# Altium integrated library NSC MiscPower.IntLib: 1417 symbols (part 18 of 39)
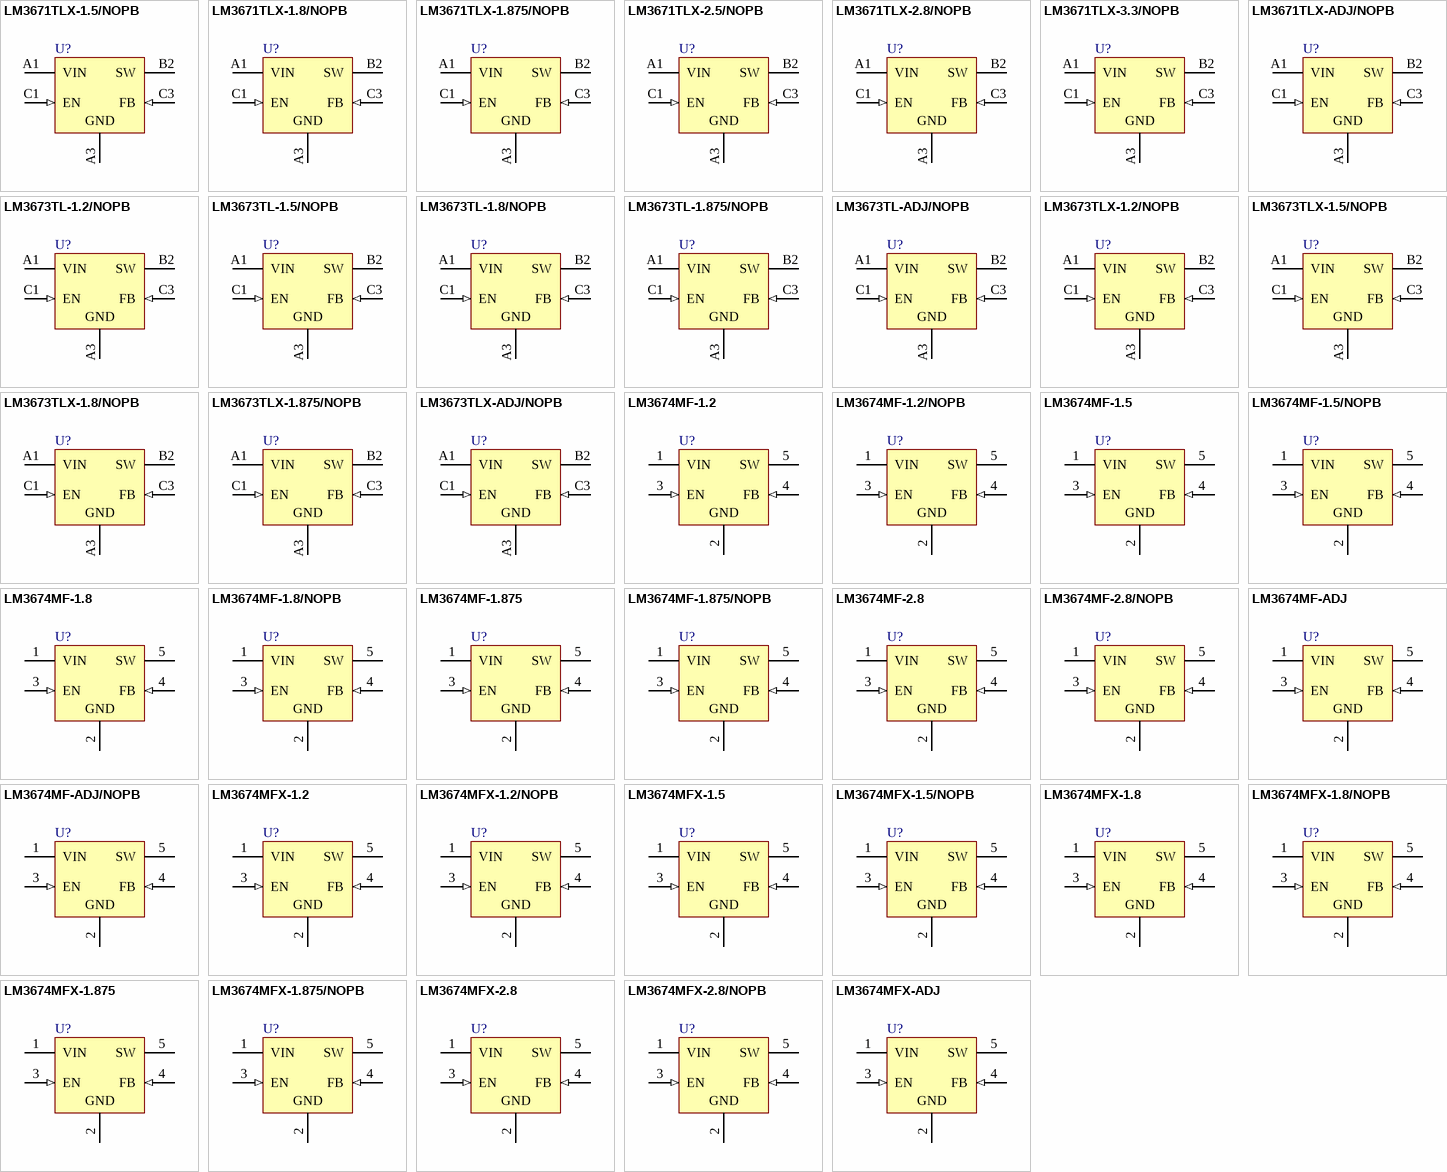
[diagram p68: symbols LM3671TLX-1.5/NOPB to LM3674MFX-ADJ]

## LM3674MF-1.5/NOPB
designator U?
2MHz, 600mA Step-Down DC-DC Converter, 5-pin SOT-23, Pb-Free; PartNumber: LM3674MF-1.5/NOPB; Manufacturer: National Semiconductor; PackageTopMarking: SLSB*XTT; PowerWise: Y; CompType: MiscPower; Published: 1-Mar-2010; DatasheetVersion: Sep-2006; PackageVersion: revD, Aug-2008; PackageReference: MF05A; Publisher: Altium Limited; PackageDescription: Molded SOT-23, .115 x .063 x .040 in Body, 5 Lead, .0375 in Pitch; Supplier 1: Digi-Key; Supplier Part Number 1: LM3674MF-1.5TR-ND; Supplier 2: Digi-Key; Supplier Part Number 2: LM3674MF-1.5CT-ND; RoHS: Y; PinCount: 5; ComponentLink1Description: LM3674 Datasheet; ComponentLink1URL: http://www.national.com/ds/LM/LM3674.pdf; ComponentLink2Description: LM3674 Web Page; ComponentLink2URL: http://www.national.com/pf/LM/LM3674.html; ComponentLink3Description: MF05A Package Page; ComponentLink3URL: http://www.national.com/packaging/folders/mf05a.html
footprint MF05A_N (SOT23, 5-Leads, Body 2.9x1.6mm, Pitch 0.95mm, Lead Span 2.8mm, IPC Medium Density)
footprint MF05A_L (SOT23, 5-Leads, Body 2.9x1.6mm, Pitch 0.95mm, Lead Span 2.8mm, IPC High Density)
footprint MF05A_M (SOT23, 5-Leads, Body 2.9x1.6mm, Pitch 0.95mm, Lead Span 2.8mm, IPC Low Density)
pins: 1 VIN (power), 2 GND (power), 3 EN (in), 4 FB (in), 5 SW (power)

## LM3674MF-1.8
designator U?
2MHz, 600mA Step-Down DC-DC Converter, 5-pin SOT-23; PartNumber: LM3674MF-1.8; Manufacturer: National Semiconductor; PackageTopMarking: SLHB*XTT; PowerWise: Y; CompType: MiscPower; Published: 4-Dec-2008; DatasheetVersion: Sep-2006; PackageVersion: revD, Aug-2008; PackageReference: MF05A; Publisher: Altium Limited; PackageDescription: Molded SOT-23, .115 x .063 x .040 in Body, 5 Lead, .0375 in Pitch; RoHS: N; PinCount: 5; ComponentLink1Description: LM3674 Datasheet; ComponentLink1URL: http://www.national.com/ds/LM/LM3674.pdf; ComponentLink2Description: LM3674 Web Page; ComponentLink2URL: http://www.national.com/pf/LM/LM3674.html; ComponentLink3Description: MF05A Package Page; ComponentLink3URL: http://www.national.com/packaging/folders/mf05a.html
footprint MF05A_N (SOT23, 5-Leads, Body 2.9x1.6mm, Pitch 0.95mm, Lead Span 2.8mm, IPC Medium Density)
footprint MF05A_L (SOT23, 5-Leads, Body 2.9x1.6mm, Pitch 0.95mm, Lead Span 2.8mm, IPC High Density)
footprint MF05A_M (SOT23, 5-Leads, Body 2.9x1.6mm, Pitch 0.95mm, Lead Span 2.8mm, IPC Low Density)
pins: 1 VIN (power), 2 GND (power), 3 EN (in), 4 FB (in), 5 SW (power)

## LM3674MF-1.8/NOPB
designator U?
2MHz, 600mA Step-Down DC-DC Converter, 5-pin SOT-23, Pb-Free; PartNumber: LM3674MF-1.8/NOPB; Manufacturer: National Semiconductor; PackageTopMarking: SLHB*XTT; PowerWise: Y; CompType: MiscPower; Published: 1-Mar-2010; DatasheetVersion: Sep-2006; PackageVersion: revD, Aug-2008; PackageReference: MF05A; Publisher: Altium Limited; PackageDescription: Molded SOT-23, .115 x .063 x .040 in Body, 5 Lead, .0375 in Pitch; Supplier 1: Digi-Key; Supplier Part Number 1: LM3674MF-1.8TR-ND; Supplier 2: Digi-Key; Supplier Part Number 2: LM3674MF-1.8CT-ND; Supplier 3: Digi-Key; Supplier Part Number 3: LM3674MF-1.8DKR-ND; Supplier 4: Farnell; Supplier Part Number 4: 1694627; RoHS: Y; PinCount: 5; ComponentLink1Description: LM3674 Datasheet; ComponentLink1URL: http://www.national.com/ds/LM/LM3674.pdf; ComponentLink2Description: LM3674 Web Page; ComponentLink2URL: http://www.national.com/pf/LM/LM3674.html; ComponentLink3Description: MF05A Package Page; ComponentLink3URL: http://www.national.com/packaging/folders/mf05a.html
footprint MF05A_N (SOT23, 5-Leads, Body 2.9x1.6mm, Pitch 0.95mm, Lead Span 2.8mm, IPC Medium Density)
footprint MF05A_L (SOT23, 5-Leads, Body 2.9x1.6mm, Pitch 0.95mm, Lead Span 2.8mm, IPC High Density)
footprint MF05A_M (SOT23, 5-Leads, Body 2.9x1.6mm, Pitch 0.95mm, Lead Span 2.8mm, IPC Low Density)
pins: 1 VIN (power), 2 GND (power), 3 EN (in), 4 FB (in), 5 SW (power)

## LM3674MF-1.875
designator U?
2MHz, 600mA Step-Down DC-DC Converter, 5-pin SOT-23; PartNumber: LM3674MF-1.875; Manufacturer: National Semiconductor; PackageTopMarking: SNNB*XTT; PowerWise: Y; CompType: MiscPower; Published: 4-Dec-2008; DatasheetVersion: Sep-2006; PackageVersion: revD, Aug-2008; PackageReference: MF05A; Publisher: Altium Limited; PackageDescription: Molded SOT-23, .115 x .063 x .040 in Body, 5 Lead, .0375 in Pitch; RoHS: N; PinCount: 5; ComponentLink1Description: LM3674 Datasheet; ComponentLink1URL: http://www.national.com/ds/LM/LM3674.pdf; ComponentLink2Description: LM3674 Web Page; ComponentLink2URL: http://www.national.com/pf/LM/LM3674.html; ComponentLink3Description: MF05A Package Page; ComponentLink3URL: http://www.national.com/packaging/folders/mf05a.html
footprint MF05A_N (SOT23, 5-Leads, Body 2.9x1.6mm, Pitch 0.95mm, Lead Span 2.8mm, IPC Medium Density)
footprint MF05A_L (SOT23, 5-Leads, Body 2.9x1.6mm, Pitch 0.95mm, Lead Span 2.8mm, IPC High Density)
footprint MF05A_M (SOT23, 5-Leads, Body 2.9x1.6mm, Pitch 0.95mm, Lead Span 2.8mm, IPC Low Density)
pins: 1 VIN (power), 2 GND (power), 3 EN (in), 4 FB (in), 5 SW (power)

## LM3674MF-1.875/NOPB
designator U?
2MHz, 600mA Step-Down DC-DC Converter, 5-pin SOT-23, Pb-Free; PartNumber: LM3674MF-1.875/NOPB; Manufacturer: National Semiconductor; PackageTopMarking: SNNB*XTT; PowerWise: Y; CompType: MiscPower; Published: 1-Mar-2010; DatasheetVersion: Sep-2006; PackageVersion: revD, Aug-2008; PackageReference: MF05A; Publisher: Altium Limited; PackageDescription: Molded SOT-23, .115 x .063 x .040 in Body, 5 Lead, .0375 in Pitch; Supplier 1: Digi-Key; Supplier Part Number 1: LM3674MF-1.875TR-ND; Supplier 2: Digi-Key; Supplier Part Number 2: LM3674MF-1.875CT-ND; RoHS: Y; PinCount: 5; ComponentLink1Description: LM3674 Datasheet; ComponentLink1URL: http://www.national.com/ds/LM/LM3674.pdf; ComponentLink2Description: LM3674 Web Page; ComponentLink2URL: http://www.national.com/pf/LM/LM3674.html; ComponentLink3Description: MF05A Package Page; ComponentLink3URL: http://www.national.com/packaging/folders/mf05a.html
footprint MF05A_N (SOT23, 5-Leads, Body 2.9x1.6mm, Pitch 0.95mm, Lead Span 2.8mm, IPC Medium Density)
footprint MF05A_L (SOT23, 5-Leads, Body 2.9x1.6mm, Pitch 0.95mm, Lead Span 2.8mm, IPC High Density)
footprint MF05A_M (SOT23, 5-Leads, Body 2.9x1.6mm, Pitch 0.95mm, Lead Span 2.8mm, IPC Low Density)
pins: 1 VIN (power), 2 GND (power), 3 EN (in), 4 FB (in), 5 SW (power)

## LM3674MF-2.8
designator U?
2MHz, 600mA Step-Down DC-DC Converter, 5-pin SOT-23; PartNumber: LM3674MF-2.8; Manufacturer: National Semiconductor; PackageTopMarking: SLZB*XTT; PowerWise: Y; CompType: MiscPower; Published: 4-Dec-2008; DatasheetVersion: Sep-2006; PackageVersion: revD, Aug-2008; PackageReference: MF05A; Publisher: Altium Limited; PackageDescription: Molded SOT-23, .115 x .063 x .040 in Body, 5 Lead, .0375 in Pitch; RoHS: N; PinCount: 5; ComponentLink1Description: LM3674 Datasheet; ComponentLink1URL: http://www.national.com/ds/LM/LM3674.pdf; ComponentLink2Description: LM3674 Web Page; ComponentLink2URL: http://www.national.com/pf/LM/LM3674.html; ComponentLink3Description: MF05A Package Page; ComponentLink3URL: http://www.national.com/packaging/folders/mf05a.html
footprint MF05A_N (SOT23, 5-Leads, Body 2.9x1.6mm, Pitch 0.95mm, Lead Span 2.8mm, IPC Medium Density)
footprint MF05A_L (SOT23, 5-Leads, Body 2.9x1.6mm, Pitch 0.95mm, Lead Span 2.8mm, IPC High Density)
footprint MF05A_M (SOT23, 5-Leads, Body 2.9x1.6mm, Pitch 0.95mm, Lead Span 2.8mm, IPC Low Density)
pins: 1 VIN (power), 2 GND (power), 3 EN (in), 4 FB (in), 5 SW (power)

## LM3674MF-2.8/NOPB
designator U?
2MHz, 600mA Step-Down DC-DC Converter, 5-pin SOT-23, Pb-Free; PartNumber: LM3674MF-2.8/NOPB; Manufacturer: National Semiconductor; PackageTopMarking: SLZB*XTT; PowerWise: Y; CompType: MiscPower; Published: 1-Mar-2010; DatasheetVersion: Sep-2006; PackageVersion: revD, Aug-2008; PackageReference: MF05A; Publisher: Altium Limited; PackageDescription: Molded SOT-23, .115 x .063 x .040 in Body, 5 Lead, .0375 in Pitch; Supplier 1: Digi-Key; Supplier Part Number 1: LM3674MF-2.8TR-ND; Supplier 2: Digi-Key; Supplier Part Number 2: LM3674MF-2.8CT-ND; RoHS: Y; PinCount: 5; ComponentLink1Description: LM3674 Datasheet; ComponentLink1URL: http://www.national.com/ds/LM/LM3674.pdf; ComponentLink2Description: LM3674 Web Page; ComponentLink2URL: http://www.national.com/pf/LM/LM3674.html; ComponentLink3Description: MF05A Package Page; ComponentLink3URL: http://www.national.com/packaging/folders/mf05a.html
footprint MF05A_N (SOT23, 5-Leads, Body 2.9x1.6mm, Pitch 0.95mm, Lead Span 2.8mm, IPC Medium Density)
footprint MF05A_L (SOT23, 5-Leads, Body 2.9x1.6mm, Pitch 0.95mm, Lead Span 2.8mm, IPC High Density)
footprint MF05A_M (SOT23, 5-Leads, Body 2.9x1.6mm, Pitch 0.95mm, Lead Span 2.8mm, IPC Low Density)
pins: 1 VIN (power), 2 GND (power), 3 EN (in), 4 FB (in), 5 SW (power)

## LM3674MF-ADJ
designator U?
2MHz, 600mA Step-Down DC-DC Converter, 5-pin SOT-23; PartNumber: LM3674MF-ADJ; Manufacturer: National Semiconductor; PackageTopMarking: SLTB*XTT; PowerWise: Y; CompType: MiscPower; Published: 4-Dec-2008; DatasheetVersion: Sep-2006; PackageVersion: revD, Aug-2008; PackageReference: MF05A; Publisher: Altium Limited; PackageDescription: Molded SOT-23, .115 x .063 x .040 in Body, 5 Lead, .0375 in Pitch; Supplier 1: Farnell; Supplier Part Number 1: 1312587; RoHS: N; PinCount: 5; ComponentLink1Description: LM3674 Datasheet; ComponentLink1URL: http://www.national.com/ds/LM/LM3674.pdf; ComponentLink2Description: LM3674 Web Page; ComponentLink2URL: http://www.national.com/pf/LM/LM3674.html; ComponentLink3Description: MF05A Package Page; ComponentLink3URL: http://www.national.com/packaging/folders/mf05a.html
footprint MF05A_N (SOT23, 5-Leads, Body 2.9x1.6mm, Pitch 0.95mm, Lead Span 2.8mm, IPC Medium Density)
footprint MF05A_L (SOT23, 5-Leads, Body 2.9x1.6mm, Pitch 0.95mm, Lead Span 2.8mm, IPC High Density)
footprint MF05A_M (SOT23, 5-Leads, Body 2.9x1.6mm, Pitch 0.95mm, Lead Span 2.8mm, IPC Low Density)
pins: 1 VIN (power), 2 GND (power), 3 EN (in), 4 FB (in), 5 SW (power)

## LM3674MF-ADJ/NOPB
designator U?
2MHz, 600mA Step-Down DC-DC Converter, 5-pin SOT-23, Pb-Free; PartNumber: LM3674MF-ADJ/NOPB; Manufacturer: National Semiconductor; PackageTopMarking: SLTB*XTT; PowerWise: Y; CompType: MiscPower; Published: 1-Mar-2010; DatasheetVersion: Sep-2006; PackageVersion: revD, Aug-2008; PackageReference: MF05A; Publisher: Altium Limited; PackageDescription: Molded SOT-23, .115 x .063 x .040 in Body, 5 Lead, .0375 in Pitch; Supplier 1: Digi-Key; Supplier Part Number 1: LM3674MF-ADJTR-ND; Supplier 2: Digi-Key; Supplier Part Number 2: LM3674MF-ADJCT-ND; Supplier 3: Digi-Key; Supplier Part Number 3: LM3674MF-ADJDKR-ND; Supplier 4: Farnell; Supplier Part Number 4: 1559830; RoHS: Y; PinCount: 5; ComponentLink1Description: LM3674 Datasheet; ComponentLink1URL: http://www.national.com/ds/LM/LM3674.pdf; ComponentLink2Description: LM3674 Web Page; ComponentLink2URL: http://www.national.com/pf/LM/LM3674.html; ComponentLink3Description: MF05A Package Page; ComponentLink3URL: http://www.national.com/packaging/folders/mf05a.html
footprint MF05A_N (SOT23, 5-Leads, Body 2.9x1.6mm, Pitch 0.95mm, Lead Span 2.8mm, IPC Medium Density)
footprint MF05A_L (SOT23, 5-Leads, Body 2.9x1.6mm, Pitch 0.95mm, Lead Span 2.8mm, IPC High Density)
footprint MF05A_M (SOT23, 5-Leads, Body 2.9x1.6mm, Pitch 0.95mm, Lead Span 2.8mm, IPC Low Density)
pins: 1 VIN (power), 2 GND (power), 3 EN (in), 4 FB (in), 5 SW (power)

## LM3674MFX-1.2
designator U?
2MHz, 600mA Step-Down DC-DC Converter, 5-pin SOT-23; PartNumber: LM3674MFX-1.2; Manufacturer: National Semiconductor; PackageTopMarking: SLRB*XTT; PowerWise: Y; CompType: MiscPower; Published: 1-Mar-2010; DatasheetVersion: Sep-2006; PackageVersion: revD, Aug-2008; PackageReference: MF05A; Publisher: Altium Limited; PackageDescription: Molded SOT-23, .115 x .063 x .040 in Body, 5 Lead, .0375 in Pitch; RoHS: N; PinCount: 5; ComponentLink1Description: LM3674 Datasheet; ComponentLink1URL: http://www.national.com/ds/LM/LM3674.pdf; ComponentLink2Description: LM3674 Web Page; ComponentLink2URL: http://www.national.com/pf/LM/LM3674.html; ComponentLink3Description: MF05A Package Page; ComponentLink3URL: http://www.national.com/packaging/folders/mf05a.html
footprint MF05A_N (SOT23, 5-Leads, Body 2.9x1.6mm, Pitch 0.95mm, Lead Span 2.8mm, IPC Medium Density)
footprint MF05A_L (SOT23, 5-Leads, Body 2.9x1.6mm, Pitch 0.95mm, Lead Span 2.8mm, IPC High Density)
footprint MF05A_M (SOT23, 5-Leads, Body 2.9x1.6mm, Pitch 0.95mm, Lead Span 2.8mm, IPC Low Density)
pins: 1 VIN (power), 2 GND (power), 3 EN (in), 4 FB (in), 5 SW (power)

## LM3674MFX-1.2/NOPB
designator U?
2MHz, 600mA Step-Down DC-DC Converter, 5-pin SOT-23, Pb-Free; PartNumber: LM3674MFX-1.2/NOPB; Manufacturer: National Semiconductor; PackageTopMarking: SLRB*XTT; PowerWise: Y; CompType: MiscPower; Published: 1-Mar-2010; DatasheetVersion: Sep-2006; PackageVersion: revD, Aug-2008; PackageReference: MF05A; Publisher: Altium Limited; PackageDescription: Molded SOT-23, .115 x .063 x .040 in Body, 5 Lead, .0375 in Pitch; Supplier 1: Digi-Key; Supplier Part Number 1: LM3674MFX-1.2-ND; RoHS: Y; PinCount: 5; ComponentLink1Description: LM3674 Datasheet; ComponentLink1URL: http://www.national.com/ds/LM/LM3674.pdf; ComponentLink2Description: LM3674 Web Page; ComponentLink2URL: http://www.national.com/pf/LM/LM3674.html; ComponentLink3Description: MF05A Package Page; ComponentLink3URL: http://www.national.com/packaging/folders/mf05a.html
footprint MF05A_N (SOT23, 5-Leads, Body 2.9x1.6mm, Pitch 0.95mm, Lead Span 2.8mm, IPC Medium Density)
footprint MF05A_L (SOT23, 5-Leads, Body 2.9x1.6mm, Pitch 0.95mm, Lead Span 2.8mm, IPC High Density)
footprint MF05A_M (SOT23, 5-Leads, Body 2.9x1.6mm, Pitch 0.95mm, Lead Span 2.8mm, IPC Low Density)
pins: 1 VIN (power), 2 GND (power), 3 EN (in), 4 FB (in), 5 SW (power)

## LM3674MFX-1.5
designator U?
2MHz, 600mA Step-Down DC-DC Converter, 5-pin SOT-23; PartNumber: LM3674MFX-1.5; Manufacturer: National Semiconductor; PackageTopMarking: SLSB*XTT; PowerWise: Y; CompType: MiscPower; Published: 1-Mar-2010; DatasheetVersion: Sep-2006; PackageVersion: revD, Aug-2008; PackageReference: MF05A; Publisher: Altium Limited; PackageDescription: Molded SOT-23, .115 x .063 x .040 in Body, 5 Lead, .0375 in Pitch; RoHS: N; PinCount: 5; ComponentLink1Description: LM3674 Datasheet; ComponentLink1URL: http://www.national.com/ds/LM/LM3674.pdf; ComponentLink2Description: LM3674 Web Page; ComponentLink2URL: http://www.national.com/pf/LM/LM3674.html; ComponentLink3Description: MF05A Package Page; ComponentLink3URL: http://www.national.com/packaging/folders/mf05a.html
footprint MF05A_N (SOT23, 5-Leads, Body 2.9x1.6mm, Pitch 0.95mm, Lead Span 2.8mm, IPC Medium Density)
footprint MF05A_L (SOT23, 5-Leads, Body 2.9x1.6mm, Pitch 0.95mm, Lead Span 2.8mm, IPC High Density)
footprint MF05A_M (SOT23, 5-Leads, Body 2.9x1.6mm, Pitch 0.95mm, Lead Span 2.8mm, IPC Low Density)
pins: 1 VIN (power), 2 GND (power), 3 EN (in), 4 FB (in), 5 SW (power)

## LM3674MFX-1.5/NOPB
designator U?
2MHz, 600mA Step-Down DC-DC Converter, 5-pin SOT-23, Pb-Free; PartNumber: LM3674MFX-1.5/NOPB; Manufacturer: National Semiconductor; PackageTopMarking: SLSB*XTT; PowerWise: Y; CompType: MiscPower; Published: 1-Mar-2010; DatasheetVersion: Sep-2006; PackageVersion: revD, Aug-2008; PackageReference: MF05A; Publisher: Altium Limited; PackageDescription: Molded SOT-23, .115 x .063 x .040 in Body, 5 Lead, .0375 in Pitch; Supplier 1: Digi-Key; Supplier Part Number 1: LM3674MFX-1.5-ND; RoHS: Y; PinCount: 5; ComponentLink1Description: LM3674 Datasheet; ComponentLink1URL: http://www.national.com/ds/LM/LM3674.pdf; ComponentLink2Description: LM3674 Web Page; ComponentLink2URL: http://www.national.com/pf/LM/LM3674.html; ComponentLink3Description: MF05A Package Page; ComponentLink3URL: http://www.national.com/packaging/folders/mf05a.html
footprint MF05A_N (SOT23, 5-Leads, Body 2.9x1.6mm, Pitch 0.95mm, Lead Span 2.8mm, IPC Medium Density)
footprint MF05A_L (SOT23, 5-Leads, Body 2.9x1.6mm, Pitch 0.95mm, Lead Span 2.8mm, IPC High Density)
footprint MF05A_M (SOT23, 5-Leads, Body 2.9x1.6mm, Pitch 0.95mm, Lead Span 2.8mm, IPC Low Density)
pins: 1 VIN (power), 2 GND (power), 3 EN (in), 4 FB (in), 5 SW (power)

## LM3674MFX-1.8
designator U?
2MHz, 600mA Step-Down DC-DC Converter, 5-pin SOT-23; PartNumber: LM3674MFX-1.8; Manufacturer: National Semiconductor; PackageTopMarking: SLHB*XTT; PowerWise: Y; CompType: MiscPower; Published: 1-Mar-2010; DatasheetVersion: Sep-2006; PackageVersion: revD, Aug-2008; PackageReference: MF05A; Publisher: Altium Limited; PackageDescription: Molded SOT-23, .115 x .063 x .040 in Body, 5 Lead, .0375 in Pitch; RoHS: N; PinCount: 5; ComponentLink1Description: LM3674 Datasheet; ComponentLink1URL: http://www.national.com/ds/LM/LM3674.pdf; ComponentLink2Description: LM3674 Web Page; ComponentLink2URL: http://www.national.com/pf/LM/LM3674.html; ComponentLink3Description: MF05A Package Page; ComponentLink3URL: http://www.national.com/packaging/folders/mf05a.html
footprint MF05A_N (SOT23, 5-Leads, Body 2.9x1.6mm, Pitch 0.95mm, Lead Span 2.8mm, IPC Medium Density)
footprint MF05A_L (SOT23, 5-Leads, Body 2.9x1.6mm, Pitch 0.95mm, Lead Span 2.8mm, IPC High Density)
footprint MF05A_M (SOT23, 5-Leads, Body 2.9x1.6mm, Pitch 0.95mm, Lead Span 2.8mm, IPC Low Density)
pins: 1 VIN (power), 2 GND (power), 3 EN (in), 4 FB (in), 5 SW (power)

## LM3674MFX-1.8/NOPB
designator U?
2MHz, 600mA Step-Down DC-DC Converter, 5-pin SOT-23, Pb-Free; PartNumber: LM3674MFX-1.8/NOPB; Manufacturer: National Semiconductor; PackageTopMarking: SLHB*XTT; PowerWise: Y; CompType: MiscPower; Published: 1-Mar-2010; DatasheetVersion: Sep-2006; PackageVersion: revD, Aug-2008; PackageReference: MF05A; Publisher: Altium Limited; PackageDescription: Molded SOT-23, .115 x .063 x .040 in Body, 5 Lead, .0375 in Pitch; Supplier 1: Digi-Key; Supplier Part Number 1: LM3674MFX-1.8-ND; RoHS: Y; PinCount: 5; ComponentLink1Description: LM3674 Datasheet; ComponentLink1URL: http://www.national.com/ds/LM/LM3674.pdf; ComponentLink2Description: LM3674 Web Page; ComponentLink2URL: http://www.national.com/pf/LM/LM3674.html; ComponentLink3Description: MF05A Package Page; ComponentLink3URL: http://www.national.com/packaging/folders/mf05a.html
footprint MF05A_N (SOT23, 5-Leads, Body 2.9x1.6mm, Pitch 0.95mm, Lead Span 2.8mm, IPC Medium Density)
footprint MF05A_L (SOT23, 5-Leads, Body 2.9x1.6mm, Pitch 0.95mm, Lead Span 2.8mm, IPC High Density)
footprint MF05A_M (SOT23, 5-Leads, Body 2.9x1.6mm, Pitch 0.95mm, Lead Span 2.8mm, IPC Low Density)
pins: 1 VIN (power), 2 GND (power), 3 EN (in), 4 FB (in), 5 SW (power)

## LM3674MFX-1.875
designator U?
2MHz, 600mA Step-Down DC-DC Converter, 5-pin SOT-23; PartNumber: LM3674MFX-1.875; Manufacturer: National Semiconductor; PackageTopMarking: SNNB*XTT; PowerWise: Y; CompType: MiscPower; Published: 1-Mar-2010; DatasheetVersion: Sep-2006; PackageVersion: revD, Aug-2008; PackageReference: MF05A; Publisher: Altium Limited; PackageDescription: Molded SOT-23, .115 x .063 x .040 in Body, 5 Lead, .0375 in Pitch; RoHS: N; PinCount: 5; ComponentLink1Description: LM3674 Datasheet; ComponentLink1URL: http://www.national.com/ds/LM/LM3674.pdf; ComponentLink2Description: LM3674 Web Page; ComponentLink2URL: http://www.national.com/pf/LM/LM3674.html; ComponentLink3Description: MF05A Package Page; ComponentLink3URL: http://www.national.com/packaging/folders/mf05a.html
footprint MF05A_N (SOT23, 5-Leads, Body 2.9x1.6mm, Pitch 0.95mm, Lead Span 2.8mm, IPC Medium Density)
footprint MF05A_L (SOT23, 5-Leads, Body 2.9x1.6mm, Pitch 0.95mm, Lead Span 2.8mm, IPC High Density)
footprint MF05A_M (SOT23, 5-Leads, Body 2.9x1.6mm, Pitch 0.95mm, Lead Span 2.8mm, IPC Low Density)
pins: 1 VIN (power), 2 GND (power), 3 EN (in), 4 FB (in), 5 SW (power)

## LM3674MFX-1.875/NOPB
designator U?
2MHz, 600mA Step-Down DC-DC Converter, 5-pin SOT-23, Pb-Free; PartNumber: LM3674MFX-1.875/NOPB; Manufacturer: National Semiconductor; PackageTopMarking: SNNB*XTT; PowerWise: Y; CompType: MiscPower; Published: 1-Mar-2010; DatasheetVersion: Sep-2006; PackageVersion: revD, Aug-2008; PackageReference: MF05A; Publisher: Altium Limited; PackageDescription: Molded SOT-23, .115 x .063 x .040 in Body, 5 Lead, .0375 in Pitch; Supplier 1: Digi-Key; Supplier Part Number 1: LM3674MFX-1.875-ND; RoHS: Y; PinCount: 5; ComponentLink1Description: LM3674 Datasheet; ComponentLink1URL: http://www.national.com/ds/LM/LM3674.pdf; ComponentLink2Description: LM3674 Web Page; ComponentLink2URL: http://www.national.com/pf/LM/LM3674.html; ComponentLink3Description: MF05A Package Page; ComponentLink3URL: http://www.national.com/packaging/folders/mf05a.html
footprint MF05A_N (SOT23, 5-Leads, Body 2.9x1.6mm, Pitch 0.95mm, Lead Span 2.8mm, IPC Medium Density)
footprint MF05A_L (SOT23, 5-Leads, Body 2.9x1.6mm, Pitch 0.95mm, Lead Span 2.8mm, IPC High Density)
footprint MF05A_M (SOT23, 5-Leads, Body 2.9x1.6mm, Pitch 0.95mm, Lead Span 2.8mm, IPC Low Density)
pins: 1 VIN (power), 2 GND (power), 3 EN (in), 4 FB (in), 5 SW (power)

## LM3674MFX-2.8
designator U?
2MHz, 600mA Step-Down DC-DC Converter, 5-pin SOT-23; PartNumber: LM3674MFX-2.8; Manufacturer: National Semiconductor; PackageTopMarking: SLZB*XTT; PowerWise: Y; CompType: MiscPower; Published: 1-Mar-2010; DatasheetVersion: Sep-2006; PackageVersion: revD, Aug-2008; PackageReference: MF05A; Publisher: Altium Limited; PackageDescription: Molded SOT-23, .115 x .063 x .040 in Body, 5 Lead, .0375 in Pitch; RoHS: N; PinCount: 5; ComponentLink1Description: LM3674 Datasheet; ComponentLink1URL: http://www.national.com/ds/LM/LM3674.pdf; ComponentLink2Description: LM3674 Web Page; ComponentLink2URL: http://www.national.com/pf/LM/LM3674.html; ComponentLink3Description: MF05A Package Page; ComponentLink3URL: http://www.national.com/packaging/folders/mf05a.html
footprint MF05A_N (SOT23, 5-Leads, Body 2.9x1.6mm, Pitch 0.95mm, Lead Span 2.8mm, IPC Medium Density)
footprint MF05A_L (SOT23, 5-Leads, Body 2.9x1.6mm, Pitch 0.95mm, Lead Span 2.8mm, IPC High Density)
footprint MF05A_M (SOT23, 5-Leads, Body 2.9x1.6mm, Pitch 0.95mm, Lead Span 2.8mm, IPC Low Density)
pins: 1 VIN (power), 2 GND (power), 3 EN (in), 4 FB (in), 5 SW (power)

## LM3674MFX-2.8/NOPB
designator U?
2MHz, 600mA Step-Down DC-DC Converter, 5-pin SOT-23, Pb-Free; PartNumber: LM3674MFX-2.8/NOPB; Manufacturer: National Semiconductor; PackageTopMarking: SLZB*XTT; PowerWise: Y; CompType: MiscPower; Published: 1-Mar-2010; DatasheetVersion: Sep-2006; PackageVersion: revD, Aug-2008; PackageReference: MF05A; Publisher: Altium Limited; PackageDescription: Molded SOT-23, .115 x .063 x .040 in Body, 5 Lead, .0375 in Pitch; Supplier 1: Digi-Key; Supplier Part Number 1: LM3674MFX-2.8-ND; RoHS: Y; PinCount: 5; ComponentLink1Description: LM3674 Datasheet; ComponentLink1URL: http://www.national.com/ds/LM/LM3674.pdf; ComponentLink2Description: LM3674 Web Page; ComponentLink2URL: http://www.national.com/pf/LM/LM3674.html; ComponentLink3Description: MF05A Package Page; ComponentLink3URL: http://www.national.com/packaging/folders/mf05a.html
footprint MF05A_N (SOT23, 5-Leads, Body 2.9x1.6mm, Pitch 0.95mm, Lead Span 2.8mm, IPC Medium Density)
footprint MF05A_L (SOT23, 5-Leads, Body 2.9x1.6mm, Pitch 0.95mm, Lead Span 2.8mm, IPC High Density)
footprint MF05A_M (SOT23, 5-Leads, Body 2.9x1.6mm, Pitch 0.95mm, Lead Span 2.8mm, IPC Low Density)
pins: 1 VIN (power), 2 GND (power), 3 EN (in), 4 FB (in), 5 SW (power)

## LM3674MFX-ADJ
designator U?
2MHz, 600mA Step-Down DC-DC Converter, 5-pin SOT-23; PartNumber: LM3674MFX-ADJ; Manufacturer: National Semiconductor; PackageTopMarking: SLTB*XTT; PowerWise: Y; CompType: MiscPower; Published: 1-Mar-2010; DatasheetVersion: Sep-2006; PackageVersion: revD, Aug-2008; PackageReference: MF05A; Publisher: Altium Limited; PackageDescription: Molded SOT-23, .115 x .063 x .040 in Body, 5 Lead, .0375 in Pitch; RoHS: N; PinCount: 5; ComponentLink1Description: LM3674 Datasheet; ComponentLink1URL: http://www.national.com/ds/LM/LM3674.pdf; ComponentLink2Description: LM3674 Web Page; ComponentLink2URL: http://www.national.com/pf/LM/LM3674.html; ComponentLink3Description: MF05A Package Page; ComponentLink3URL: http://www.national.com/packaging/folders/mf05a.html
footprint MF05A_N (SOT23, 5-Leads, Body 2.9x1.6mm, Pitch 0.95mm, Lead Span 2.8mm, IPC Medium Density)
footprint MF05A_L (SOT23, 5-Leads, Body 2.9x1.6mm, Pitch 0.95mm, Lead Span 2.8mm, IPC High Density)
footprint MF05A_M (SOT23, 5-Leads, Body 2.9x1.6mm, Pitch 0.95mm, Lead Span 2.8mm, IPC Low Density)
pins: 1 VIN (power), 2 GND (power), 3 EN (in), 4 FB (in), 5 SW (power)

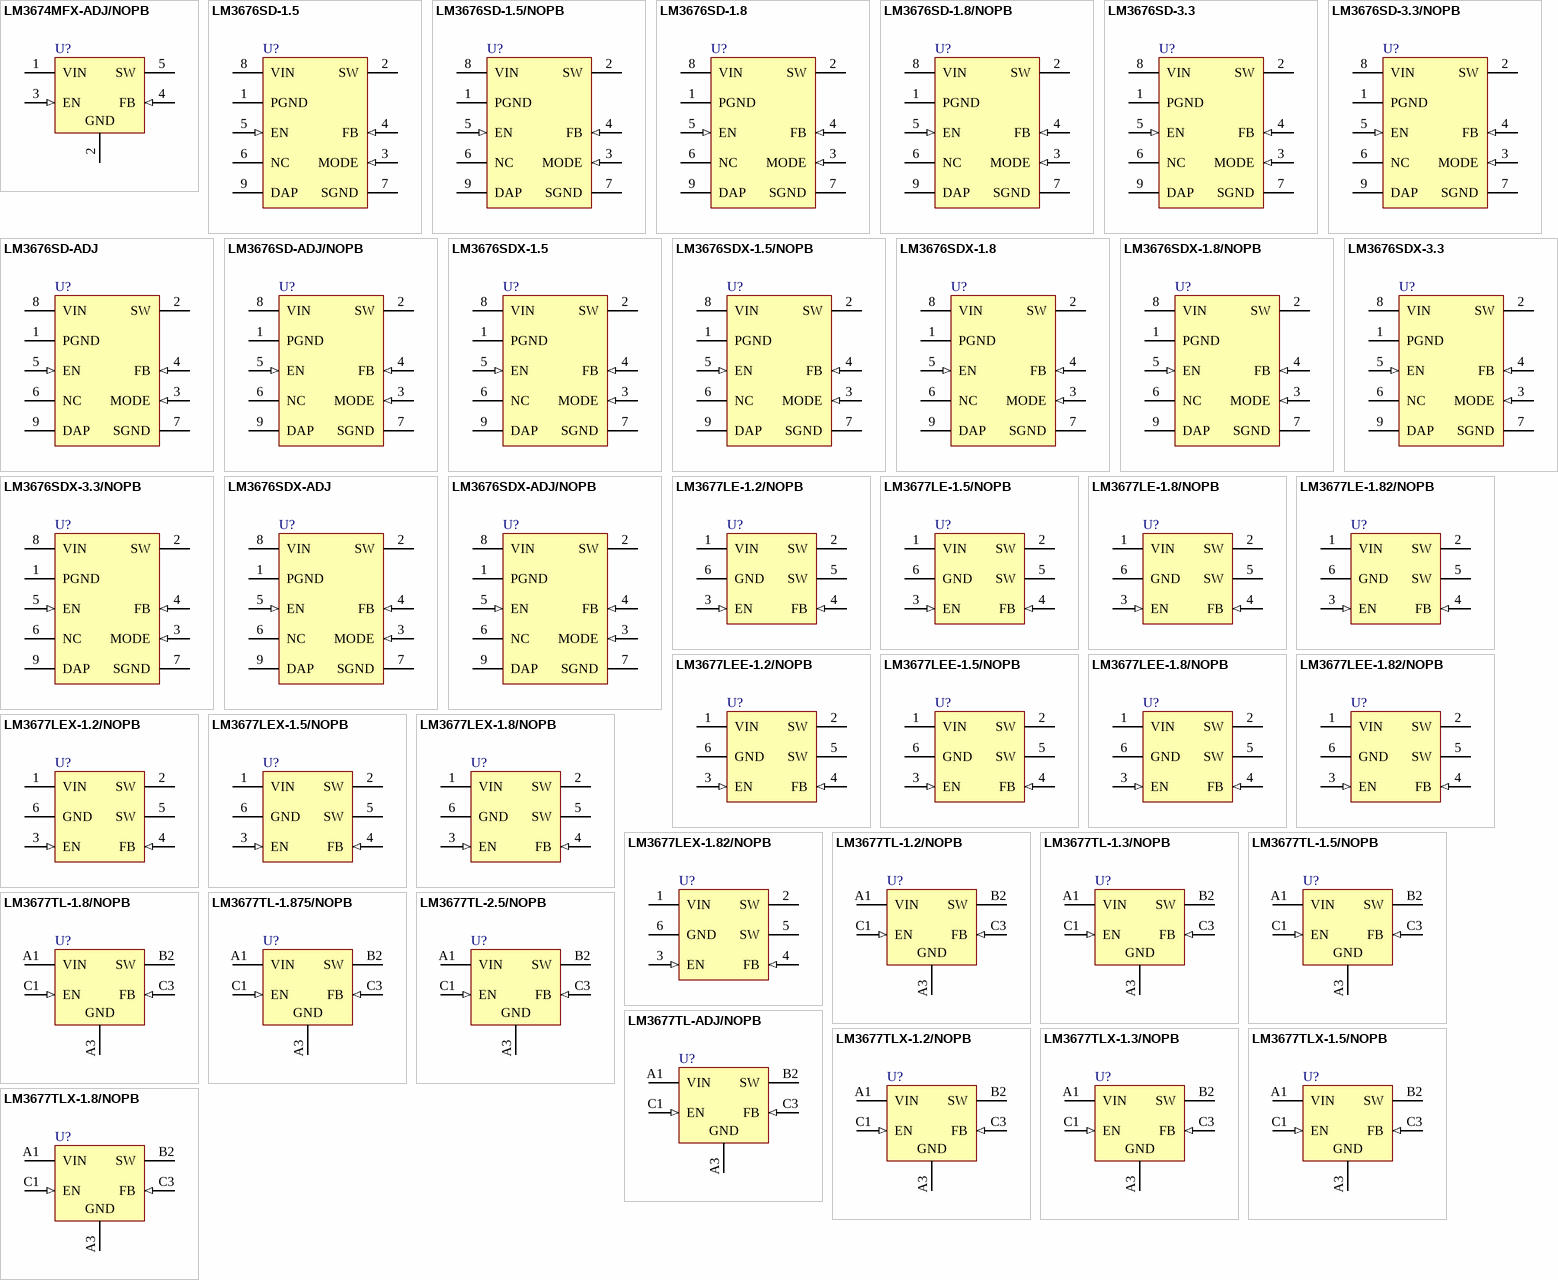
[diagram p20: symbols LM3674MFX-ADJ/NOPB to LM3677TLX-1.8/NOPB]

## LM3674MFX-ADJ/NOPB
designator U?
2MHz, 600mA Step-Down DC-DC Converter, 5-pin SOT-23, Pb-Free; PartNumber: LM3674MFX-ADJ/NOPB; Manufacturer: National Semiconductor; PackageTopMarking: SLTB*XTT; PowerWise: Y; CompType: MiscPower; Published: 1-Mar-2010; DatasheetVersion: Sep-2006; PackageVersion: revD, Aug-2008; PackageReference: MF05A; Publisher: Altium Limited; PackageDescription: Molded SOT-23, .115 x .063 x .040 in Body, 5 Lead, .0375 in Pitch; Supplier 1: Digi-Key; Supplier Part Number 1: LM3674MFX-ADJ-ND; RoHS: Y; PinCount: 5; ComponentLink1Description: LM3674 Datasheet; ComponentLink1URL: http://www.national.com/ds/LM/LM3674.pdf; ComponentLink2Description: LM3674 Web Page; ComponentLink2URL: http://www.national.com/pf/LM/LM3674.html; ComponentLink3Description: MF05A Package Page; ComponentLink3URL: http://www.national.com/packaging/folders/mf05a.html
footprint MF05A_N (SOT23, 5-Leads, Body 2.9x1.6mm, Pitch 0.95mm, Lead Span 2.8mm, IPC Medium Density)
footprint MF05A_L (SOT23, 5-Leads, Body 2.9x1.6mm, Pitch 0.95mm, Lead Span 2.8mm, IPC High Density)
footprint MF05A_M (SOT23, 5-Leads, Body 2.9x1.6mm, Pitch 0.95mm, Lead Span 2.8mm, IPC Low Density)
pins: 1 VIN (power), 2 GND (power), 3 EN (in), 4 FB (in), 5 SW (power)

## LM3676SD-1.5
designator U?
2MHz, 600mA Step-Down DC-DC Converter with Mode Control, 8-pin LLP; PartNumber: LM3676SD-1.5; Manufacturer: National Semiconductor; PackageTopMarking: ZXYTT*S007B; PowerWise: N; CompType: MiscPower; Published: 4-Dec-2008; DatasheetVersion: Dec-2006; PackageVersion: revA, Aug-2003; PackageReference: SDA08A; Publisher: Altium Limited; PackageDescription: LLP, Plastic, Dual, 3 x 3 x 0.8mm Body, 8 Lead, 0.5mm Pitch, No Pullback; RoHS: N; PinCount: 8; ComponentLink1Description: LM3676 Datasheet; ComponentLink1URL: http://www.national.com/ds/LM/LM3676.pdf; ComponentLink2Description: LM3676 Web Page; ComponentLink2URL: http://www.national.com/pf/LM/LM3676.html; ComponentLink3Description: SDA08A Package Page; ComponentLink3URL: http://www.national.com/packaging/folders/sda08a.html
footprint SDA08A (SON, 8-Leads, Body 3x3mm, Pitch 0.5mm, NSC Recommended)
pins: 1 PGND (power), 2 SW (power), 3 MODE (in), 4 FB (in), 5 EN (in), 6 NC, 7 SGND (power), 8 VIN (power), 9 DAP (power)

## LM3676SD-1.5/NOPB
designator U?
2MHz, 600mA Step-Down DC-DC Converter with Mode Control, 8-pin LLP, Pb-Free; PartNumber: LM3676SD-1.5/NOPB; Manufacturer: National Semiconductor; PackageTopMarking: ZXYTT*S007B; PowerWise: N; CompType: MiscPower; Published: 1-Mar-2010; DatasheetVersion: Dec-2006; PackageVersion: revA, Aug-2003; PackageReference: SDA08A; Publisher: Altium Limited; PackageDescription: LLP, Plastic, Dual, 3 x 3 x 0.8mm Body, 8 Lead, 0.5mm Pitch, No Pullback; Supplier 1: Digi-Key; Supplier Part Number 1: LM3676SD-1.5TR-ND; Supplier 2: Digi-Key; Supplier Part Number 2: LM3676SD-1.5CT-ND; Supplier 3: Digi-Key; Supplier Part Number 3: LM3676SD-1.5DKR-ND; RoHS: Y; PinCount: 8; ComponentLink1Description: LM3676 Datasheet; ComponentLink1URL: http://www.national.com/ds/LM/LM3676.pdf; ComponentLink2Description: LM3676 Web Page; ComponentLink2URL: http://www.national.com/pf/LM/LM3676.html; ComponentLink3Description: SDA08A Package Page; ComponentLink3URL: http://www.national.com/packaging/folders/sda08a.html
footprint SDA08A (SON, 8-Leads, Body 3x3mm, Pitch 0.5mm, NSC Recommended)
pins: 1 PGND (power), 2 SW (power), 3 MODE (in), 4 FB (in), 5 EN (in), 6 NC, 7 SGND (power), 8 VIN (power), 9 DAP (power)

## LM3676SD-1.8
designator U?
2MHz, 600mA Step-Down DC-DC Converter with Mode Control, 8-pin LLP; PartNumber: LM3676SD-1.8; Manufacturer: National Semiconductor; PackageTopMarking: ZXYTT*S009B; PowerWise: N; CompType: MiscPower; Published: 4-Dec-2008; DatasheetVersion: Dec-2006; PackageVersion: revA, Aug-2003; PackageReference: SDA08A; Publisher: Altium Limited; PackageDescription: LLP, Plastic, Dual, 3 x 3 x 0.8mm Body, 8 Lead, 0.5mm Pitch, No Pullback; RoHS: N; PinCount: 8; ComponentLink1Description: LM3676 Datasheet; ComponentLink1URL: http://www.national.com/ds/LM/LM3676.pdf; ComponentLink2Description: LM3676 Web Page; ComponentLink2URL: http://www.national.com/pf/LM/LM3676.html; ComponentLink3Description: SDA08A Package Page; ComponentLink3URL: http://www.national.com/packaging/folders/sda08a.html
footprint SDA08A (SON, 8-Leads, Body 3x3mm, Pitch 0.5mm, NSC Recommended)
pins: 1 PGND (power), 2 SW (power), 3 MODE (in), 4 FB (in), 5 EN (in), 6 NC, 7 SGND (power), 8 VIN (power), 9 DAP (power)

## LM3676SD-1.8/NOPB
designator U?
2MHz, 600mA Step-Down DC-DC Converter with Mode Control, 8-pin LLP, Pb-Free; PartNumber: LM3676SD-1.8/NOPB; Manufacturer: National Semiconductor; PackageTopMarking: ZXYTT*S009B; PowerWise: N; CompType: MiscPower; Published: 1-Mar-2010; DatasheetVersion: Dec-2006; PackageVersion: revA, Aug-2003; PackageReference: SDA08A; Publisher: Altium Limited; PackageDescription: LLP, Plastic, Dual, 3 x 3 x 0.8mm Body, 8 Lead, 0.5mm Pitch, No Pullback; Supplier 1: Digi-Key; Supplier Part Number 1: LM3676SD-1.8TR-ND; Supplier 2: Digi-Key; Supplier Part Number 2: LM3676SD-1.8CT-ND; Supplier 3: Digi-Key; Supplier Part Number 3: LM3676SD-1.8DKR-ND; RoHS: Y; PinCount: 8; ComponentLink1Description: LM3676 Datasheet; ComponentLink1URL: http://www.national.com/ds/LM/LM3676.pdf; ComponentLink2Description: LM3676 Web Page; ComponentLink2URL: http://www.national.com/pf/LM/LM3676.html; ComponentLink3Description: SDA08A Package Page; ComponentLink3URL: http://www.national.com/packaging/folders/sda08a.html
footprint SDA08A (SON, 8-Leads, Body 3x3mm, Pitch 0.5mm, NSC Recommended)
pins: 1 PGND (power), 2 SW (power), 3 MODE (in), 4 FB (in), 5 EN (in), 6 NC, 7 SGND (power), 8 VIN (power), 9 DAP (power)

## LM3676SD-3.3
designator U?
2MHz, 600mA Step-Down DC-DC Converter with Mode Control, 8-pin LLP; PartNumber: LM3676SD-3.3; Manufacturer: National Semiconductor; PackageTopMarking: ZXYTT*S010B; PowerWise: N; CompType: MiscPower; Published: 4-Dec-2008; DatasheetVersion: Dec-2006; PackageVersion: revA, Aug-2003; PackageReference: SDA08A; Publisher: Altium Limited; PackageDescription: LLP, Plastic, Dual, 3 x 3 x 0.8mm Body, 8 Lead, 0.5mm Pitch, No Pullback; RoHS: N; PinCount: 8; ComponentLink1Description: LM3676 Datasheet; ComponentLink1URL: http://www.national.com/ds/LM/LM3676.pdf; ComponentLink2Description: LM3676 Web Page; ComponentLink2URL: http://www.national.com/pf/LM/LM3676.html; ComponentLink3Description: SDA08A Package Page; ComponentLink3URL: http://www.national.com/packaging/folders/sda08a.html
footprint SDA08A (SON, 8-Leads, Body 3x3mm, Pitch 0.5mm, NSC Recommended)
pins: 1 PGND (power), 2 SW (power), 3 MODE (in), 4 FB (in), 5 EN (in), 6 NC, 7 SGND (power), 8 VIN (power), 9 DAP (power)

## LM3676SD-3.3/NOPB
designator U?
2MHz, 600mA Step-Down DC-DC Converter with Mode Control, 8-pin LLP, Pb-Free; PartNumber: LM3676SD-3.3/NOPB; Manufacturer: National Semiconductor; PackageTopMarking: ZXYTT*S010B; PowerWise: N; CompType: MiscPower; Published: 1-Mar-2010; DatasheetVersion: Dec-2006; PackageVersion: revA, Aug-2003; PackageReference: SDA08A; Publisher: Altium Limited; PackageDescription: LLP, Plastic, Dual, 3 x 3 x 0.8mm Body, 8 Lead, 0.5mm Pitch, No Pullback; Supplier 1: Digi-Key; Supplier Part Number 1: LM3676SD-3.3TR-ND; Supplier 2: Digi-Key; Supplier Part Number 2: LM3676SD-3.3CT-ND; Supplier 3: Digi-Key; Supplier Part Number 3: LM3676SD-3.3DKR-ND; RoHS: Y; PinCount: 8; ComponentLink1Description: LM3676 Datasheet; ComponentLink1URL: http://www.national.com/ds/LM/LM3676.pdf; ComponentLink2Description: LM3676 Web Page; ComponentLink2URL: http://www.national.com/pf/LM/LM3676.html; ComponentLink3Description: SDA08A Package Page; ComponentLink3URL: http://www.national.com/packaging/folders/sda08a.html
footprint SDA08A (SON, 8-Leads, Body 3x3mm, Pitch 0.5mm, NSC Recommended)
pins: 1 PGND (power), 2 SW (power), 3 MODE (in), 4 FB (in), 5 EN (in), 6 NC, 7 SGND (power), 8 VIN (power), 9 DAP (power)

## LM3676SD-ADJ
designator U?
2MHz, 600mA Step-Down DC-DC Converter with Mode Control, 8-pin LLP; PartNumber: LM3676SD-ADJ; Manufacturer: National Semiconductor; PackageTopMarking: ZXYTT*S008B; PowerWise: N; CompType: MiscPower; Published: 4-Dec-2008; DatasheetVersion: Dec-2006; PackageVersion: revA, Aug-2003; PackageReference: SDA08A; Publisher: Altium Limited; PackageDescription: LLP, Plastic, Dual, 3 x 3 x 0.8mm Body, 8 Lead, 0.5mm Pitch, No Pullback; RoHS: N; PinCount: 8; ComponentLink1Description: LM3676 Datasheet; ComponentLink1URL: http://www.national.com/ds/LM/LM3676.pdf; ComponentLink2Description: LM3676 Web Page; ComponentLink2URL: http://www.national.com/pf/LM/LM3676.html; ComponentLink3Description: SDA08A Package Page; ComponentLink3URL: http://www.national.com/packaging/folders/sda08a.html
footprint SDA08A (SON, 8-Leads, Body 3x3mm, Pitch 0.5mm, NSC Recommended)
pins: 1 PGND (power), 2 SW (power), 3 MODE (in), 4 FB (in), 5 EN (in), 6 NC, 7 SGND (power), 8 VIN (power), 9 DAP (power)

## LM3676SD-ADJ/NOPB
designator U?
2MHz, 600mA Step-Down DC-DC Converter with Mode Control, 8-pin LLP, Pb-Free; PartNumber: LM3676SD-ADJ/NOPB; Manufacturer: National Semiconductor; PackageTopMarking: ZXYTT*S008B; PowerWise: N; CompType: MiscPower; Published: 1-Mar-2010; DatasheetVersion: Dec-2006; PackageVersion: revA, Aug-2003; PackageReference: SDA08A; Publisher: Altium Limited; PackageDescription: LLP, Plastic, Dual, 3 x 3 x 0.8mm Body, 8 Lead, 0.5mm Pitch, No Pullback; Supplier 1: Digi-Key; Supplier Part Number 1: LM3676SD-ADJTR-ND; Supplier 2: Digi-Key; Supplier Part Number 2: LM3676SD-ADJCT-ND; Supplier 3: Digi-Key; Supplier Part Number 3: LM3676SD-ADJDKR-ND; RoHS: Y; PinCount: 8; ComponentLink1Description: LM3676 Datasheet; ComponentLink1URL: http://www.national.com/ds/LM/LM3676.pdf; ComponentLink2Description: LM3676 Web Page; ComponentLink2URL: http://www.national.com/pf/LM/LM3676.html; ComponentLink3Description: SDA08A Package Page; ComponentLink3URL: http://www.national.com/packaging/folders/sda08a.html
footprint SDA08A (SON, 8-Leads, Body 3x3mm, Pitch 0.5mm, NSC Recommended)
pins: 1 PGND (power), 2 SW (power), 3 MODE (in), 4 FB (in), 5 EN (in), 6 NC, 7 SGND (power), 8 VIN (power), 9 DAP (power)

## LM3676SDX-1.5
designator U?
2MHz, 600mA Step-Down DC-DC Converter with Mode Control, 8-pin LLP; PartNumber: LM3676SDX-1.5; Manufacturer: National Semiconductor; PackageTopMarking: ZXYTT*S007B; PowerWise: N; CompType: MiscPower; Published: 1-Mar-2010; DatasheetVersion: Dec-2006; PackageVersion: revA, Aug-2003; PackageReference: SDA08A; Publisher: Altium Limited; PackageDescription: LLP, Plastic, Dual, 3 x 3 x 0.8mm Body, 8 Lead, 0.5mm Pitch, No Pullback; RoHS: N; PinCount: 8; ComponentLink1Description: LM3676 Datasheet; ComponentLink1URL: http://www.national.com/ds/LM/LM3676.pdf; ComponentLink2Description: LM3676 Web Page; ComponentLink2URL: http://www.national.com/pf/LM/LM3676.html; ComponentLink3Description: SDA08A Package Page; ComponentLink3URL: http://www.national.com/packaging/folders/sda08a.html
footprint SDA08A (SON, 8-Leads, Body 3x3mm, Pitch 0.5mm, NSC Recommended)
pins: 1 PGND (power), 2 SW (power), 3 MODE (in), 4 FB (in), 5 EN (in), 6 NC, 7 SGND (power), 8 VIN (power), 9 DAP (power)

## LM3676SDX-1.5/NOPB
designator U?
2MHz, 600mA Step-Down DC-DC Converter with Mode Control, 8-pin LLP, Pb-Free; PartNumber: LM3676SDX-1.5/NOPB; Manufacturer: National Semiconductor; PackageTopMarking: ZXYTT*S007B; PowerWise: N; CompType: MiscPower; Published: 1-Mar-2010; DatasheetVersion: Dec-2006; PackageVersion: revA, Aug-2003; PackageReference: SDA08A; Publisher: Altium Limited; PackageDescription: LLP, Plastic, Dual, 3 x 3 x 0.8mm Body, 8 Lead, 0.5mm Pitch, No Pullback; Supplier 1: Digi-Key; Supplier Part Number 1: LM3676SDX-1.5-ND; RoHS: Y; PinCount: 8; ComponentLink1Description: LM3676 Datasheet; ComponentLink1URL: http://www.national.com/ds/LM/LM3676.pdf; ComponentLink2Description: LM3676 Web Page; ComponentLink2URL: http://www.national.com/pf/LM/LM3676.html; ComponentLink3Description: SDA08A Package Page; ComponentLink3URL: http://www.national.com/packaging/folders/sda08a.html
footprint SDA08A (SON, 8-Leads, Body 3x3mm, Pitch 0.5mm, NSC Recommended)
pins: 1 PGND (power), 2 SW (power), 3 MODE (in), 4 FB (in), 5 EN (in), 6 NC, 7 SGND (power), 8 VIN (power), 9 DAP (power)

## LM3676SDX-1.8
designator U?
2MHz, 600mA Step-Down DC-DC Converter with Mode Control, 8-pin LLP; PartNumber: LM3676SDX-1.8; Manufacturer: National Semiconductor; PackageTopMarking: ZXYTT*S009B; PowerWise: N; CompType: MiscPower; Published: 1-Mar-2010; DatasheetVersion: Dec-2006; PackageVersion: revA, Aug-2003; PackageReference: SDA08A; Publisher: Altium Limited; PackageDescription: LLP, Plastic, Dual, 3 x 3 x 0.8mm Body, 8 Lead, 0.5mm Pitch, No Pullback; RoHS: N; PinCount: 8; ComponentLink1Description: LM3676 Datasheet; ComponentLink1URL: http://www.national.com/ds/LM/LM3676.pdf; ComponentLink2Description: LM3676 Web Page; ComponentLink2URL: http://www.national.com/pf/LM/LM3676.html; ComponentLink3Description: SDA08A Package Page; ComponentLink3URL: http://www.national.com/packaging/folders/sda08a.html
footprint SDA08A (SON, 8-Leads, Body 3x3mm, Pitch 0.5mm, NSC Recommended)
pins: 1 PGND (power), 2 SW (power), 3 MODE (in), 4 FB (in), 5 EN (in), 6 NC, 7 SGND (power), 8 VIN (power), 9 DAP (power)

## LM3676SDX-1.8/NOPB
designator U?
2MHz, 600mA Step-Down DC-DC Converter with Mode Control, 8-pin LLP, Pb-Free; PartNumber: LM3676SDX-1.8/NOPB; Manufacturer: National Semiconductor; PackageTopMarking: ZXYTT*S009B; PowerWise: N; CompType: MiscPower; Published: 1-Mar-2010; DatasheetVersion: Dec-2006; PackageVersion: revA, Aug-2003; PackageReference: SDA08A; Publisher: Altium Limited; PackageDescription: LLP, Plastic, Dual, 3 x 3 x 0.8mm Body, 8 Lead, 0.5mm Pitch, No Pullback; Supplier 1: Digi-Key; Supplier Part Number 1: LM3676SDX-1.8-ND; RoHS: Y; PinCount: 8; ComponentLink1Description: LM3676 Datasheet; ComponentLink1URL: http://www.national.com/ds/LM/LM3676.pdf; ComponentLink2Description: LM3676 Web Page; ComponentLink2URL: http://www.national.com/pf/LM/LM3676.html; ComponentLink3Description: SDA08A Package Page; ComponentLink3URL: http://www.national.com/packaging/folders/sda08a.html
footprint SDA08A (SON, 8-Leads, Body 3x3mm, Pitch 0.5mm, NSC Recommended)
pins: 1 PGND (power), 2 SW (power), 3 MODE (in), 4 FB (in), 5 EN (in), 6 NC, 7 SGND (power), 8 VIN (power), 9 DAP (power)

## LM3676SDX-3.3
designator U?
2MHz, 600mA Step-Down DC-DC Converter with Mode Control, 8-pin LLP; PartNumber: LM3676SDX-3.3; Manufacturer: National Semiconductor; PackageTopMarking: ZXYTT*S010B; PowerWise: N; CompType: MiscPower; Published: 1-Mar-2010; DatasheetVersion: Dec-2006; PackageVersion: revA, Aug-2003; PackageReference: SDA08A; Publisher: Altium Limited; PackageDescription: LLP, Plastic, Dual, 3 x 3 x 0.8mm Body, 8 Lead, 0.5mm Pitch, No Pullback; RoHS: N; PinCount: 8; ComponentLink1Description: LM3676 Datasheet; ComponentLink1URL: http://www.national.com/ds/LM/LM3676.pdf; ComponentLink2Description: LM3676 Web Page; ComponentLink2URL: http://www.national.com/pf/LM/LM3676.html; ComponentLink3Description: SDA08A Package Page; ComponentLink3URL: http://www.national.com/packaging/folders/sda08a.html
footprint SDA08A (SON, 8-Leads, Body 3x3mm, Pitch 0.5mm, NSC Recommended)
pins: 1 PGND (power), 2 SW (power), 3 MODE (in), 4 FB (in), 5 EN (in), 6 NC, 7 SGND (power), 8 VIN (power), 9 DAP (power)

## LM3676SDX-3.3/NOPB
designator U?
2MHz, 600mA Step-Down DC-DC Converter with Mode Control, 8-pin LLP, Pb-Free; PartNumber: LM3676SDX-3.3/NOPB; Manufacturer: National Semiconductor; PackageTopMarking: ZXYTT*S010B; PowerWise: N; CompType: MiscPower; Published: 1-Mar-2010; DatasheetVersion: Dec-2006; PackageVersion: revA, Aug-2003; PackageReference: SDA08A; Publisher: Altium Limited; PackageDescription: LLP, Plastic, Dual, 3 x 3 x 0.8mm Body, 8 Lead, 0.5mm Pitch, No Pullback; Supplier 1: Digi-Key; Supplier Part Number 1: LM3676SDX-3.3-ND; RoHS: Y; PinCount: 8; ComponentLink1Description: LM3676 Datasheet; ComponentLink1URL: http://www.national.com/ds/LM/LM3676.pdf; ComponentLink2Description: LM3676 Web Page; ComponentLink2URL: http://www.national.com/pf/LM/LM3676.html; ComponentLink3Description: SDA08A Package Page; ComponentLink3URL: http://www.national.com/packaging/folders/sda08a.html
footprint SDA08A (SON, 8-Leads, Body 3x3mm, Pitch 0.5mm, NSC Recommended)
pins: 1 PGND (power), 2 SW (power), 3 MODE (in), 4 FB (in), 5 EN (in), 6 NC, 7 SGND (power), 8 VIN (power), 9 DAP (power)

## LM3676SDX-ADJ
designator U?
2MHz, 600mA Step-Down DC-DC Converter with Mode Control, 8-pin LLP; PartNumber: LM3676SDX-ADJ; Manufacturer: National Semiconductor; PackageTopMarking: ZXYTT*S008B; PowerWise: N; CompType: MiscPower; Published: 1-Mar-2010; DatasheetVersion: Dec-2006; PackageVersion: revA, Aug-2003; PackageReference: SDA08A; Publisher: Altium Limited; PackageDescription: LLP, Plastic, Dual, 3 x 3 x 0.8mm Body, 8 Lead, 0.5mm Pitch, No Pullback; RoHS: N; PinCount: 8; ComponentLink1Description: LM3676 Datasheet; ComponentLink1URL: http://www.national.com/ds/LM/LM3676.pdf; ComponentLink2Description: LM3676 Web Page; ComponentLink2URL: http://www.national.com/pf/LM/LM3676.html; ComponentLink3Description: SDA08A Package Page; ComponentLink3URL: http://www.national.com/packaging/folders/sda08a.html
footprint SDA08A (SON, 8-Leads, Body 3x3mm, Pitch 0.5mm, NSC Recommended)
pins: 1 PGND (power), 2 SW (power), 3 MODE (in), 4 FB (in), 5 EN (in), 6 NC, 7 SGND (power), 8 VIN (power), 9 DAP (power)

## LM3676SDX-ADJ/NOPB
designator U?
2MHz, 600mA Step-Down DC-DC Converter with Mode Control, 8-pin LLP, Pb-Free; PartNumber: LM3676SDX-ADJ/NOPB; Manufacturer: National Semiconductor; PackageTopMarking: ZXYTT*S008B; PowerWise: N; CompType: MiscPower; Published: 1-Mar-2010; DatasheetVersion: Dec-2006; PackageVersion: revA, Aug-2003; PackageReference: SDA08A; Publisher: Altium Limited; PackageDescription: LLP, Plastic, Dual, 3 x 3 x 0.8mm Body, 8 Lead, 0.5mm Pitch, No Pullback; Supplier 1: Digi-Key; Supplier Part Number 1: LM3676SDX-ADJ-ND; RoHS: Y; PinCount: 8; ComponentLink1Description: LM3676 Datasheet; ComponentLink1URL: http://www.national.com/ds/LM/LM3676.pdf; ComponentLink2Description: LM3676 Web Page; ComponentLink2URL: http://www.national.com/pf/LM/LM3676.html; ComponentLink3Description: SDA08A Package Page; ComponentLink3URL: http://www.national.com/packaging/folders/sda08a.html
footprint SDA08A (SON, 8-Leads, Body 3x3mm, Pitch 0.5mm, NSC Recommended)
pins: 1 PGND (power), 2 SW (power), 3 MODE (in), 4 FB (in), 5 EN (in), 6 NC, 7 SGND (power), 8 VIN (power), 9 DAP (power)

## LM3677LE-1.2/NOPB
designator U?
3MHz, 600mA Miniature Step-Down DC-DC Converter for Ultra Low Voltage Circuits, 6-pin LLP, Pb-Free; PartNumber: LM3677LE-1.2/NOPB; Manufacturer: National Semiconductor; PackageTopMarking: XVK; PowerWise: N; CompType: MiscPower; Published: 1-Mar-2010; DatasheetVersion: Feb-2008; PackageVersion: revB, Apr-2008; PackageReference: LEB06A; Publisher: Altium Limited; PackageDescription: LLP, 2 x 1.5 x 0.6mm, 6 Lead, 0.5mm Pitch, No Pullback; Supplier 1: Digi-Key; Supplier Part Number 1: LM3677LE-1.2-ND; RoHS: Y; PinCount: 6; ComponentLink1Description: LM3677 Datasheet; ComponentLink1URL: http://www.national.com/ds/LM/LM3677.pdf; ComponentLink2Description: LM3677 Web Page; ComponentLink2URL: http://www.national.com/pf/LM/LM3677.html; ComponentLink3Description: LEB06A Package Page; ComponentLink3URL: http://www.national.com/packaging/folders/leb06a.html
footprint LEB06A (SON, 6-Leads, Body 2x1.5mm, Pitch 0.5mm, NSC Recommended)
pins: 1 VIN (power), 2 SW (power), 3 EN (in), 4 FB (in), 5 SW (power), 6 GND (power)

## LM3677LE-1.5/NOPB
designator U?
3MHz, 600mA Miniature Step-Down DC-DC Converter for Ultra Low Voltage Circuits, 6-pin LLP, Pb-Free; PartNumber: LM3677LE-1.5/NOPB; Manufacturer: National Semiconductor; PackageTopMarking: XVL; PowerWise: N; CompType: MiscPower; Published: 1-Mar-2010; DatasheetVersion: Oct-2008; PackageVersion: revB, Apr-2008; PackageReference: LEB06A; Publisher: Altium Limited; PackageDescription: LLP, 2 x 1.5 x 0.6mm, 6 Lead, 0.5mm Pitch, No Pullback; Supplier 1: Digi-Key; Supplier Part Number 1: LM3677LE-1.5-ND; RoHS: Y; PinCount: 6; ComponentLink1Description: LM3677 Datasheet; ComponentLink1URL: http://www.national.com/ds/LM/LM3677.pdf; ComponentLink2Description: LM3677 Web Page; ComponentLink2URL: http://www.national.com/pf/LM/LM3677.html; ComponentLink3Description: LEB06A Package Page; ComponentLink3URL: http://www.national.com/packaging/folders/leb06a.html
footprint LEB06A (SON, 6-Leads, Body 2x1.5mm, Pitch 0.5mm, NSC Recommended)
pins: 1 VIN (power), 2 SW (power), 3 EN (in), 4 FB (in), 5 SW (power), 6 GND (power)

## LM3677LE-1.8/NOPB
designator U?
3MHz, 600mA Miniature Step-Down DC-DC Converter for Ultra Low Voltage Circuits, 6-pin LLP, Pb-Free; PartNumber: LM3677LE-1.8/NOPB; Manufacturer: National Semiconductor; PackageTopMarking: XVN; PowerWise: Y; CompType: MiscPower; Published: 1-Mar-2010; DatasheetVersion: Oct-2008; PackageVersion: revB, Apr-2008; PackageReference: LEB06A; Publisher: Altium Limited; PackageDescription: LLP, 2 x 1.5 x 0.6mm, 6 Lead, 0.5mm Pitch, No Pullback; Supplier 1: Digi-Key; Supplier Part Number 1: LM3677LE-1.8-ND; RoHS: Y; PinCount: 6; ComponentLink1Description: LM3677 Datasheet; ComponentLink1URL: http://www.national.com/ds/LM/LM3677.pdf; ComponentLink2Description: LM3677 Web Page; ComponentLink2URL: http://www.national.com/pf/LM/LM3677.html; ComponentLink3Description: LEB06A Package Page; ComponentLink3URL: http://www.national.com/packaging/folders/leb06a.html
footprint LEB06A (SON, 6-Leads, Body 2x1.5mm, Pitch 0.5mm, NSC Recommended)
pins: 1 VIN (power), 2 SW (power), 3 EN (in), 4 FB (in), 5 SW (power), 6 GND (power)

## LM3677LE-1.82/NOPB
designator U?
3MHz, 600mA Miniature Step-Down DC-DC Converter for Ultra Low Voltage Circuits, 6-pin LLP, Pb-Free; PartNumber: LM3677LE-1.82/NOPB; Manufacturer: National Semiconductor; PackageTopMarking: XV5; PowerWise: N; CompType: MiscPower; Published: 1-Mar-2010; DatasheetVersion: Oct-2008; PackageVersion: revB, Apr-2008; PackageReference: LEB06A; Publisher: Altium Limited; PackageDescription: LLP, 2 x 1.5 x 0.6mm, 6 Lead, 0.5mm Pitch, No Pullback; Supplier 1: Digi-Key; Supplier Part Number 1: LM3677LE-1.82-ND; RoHS: Y; PinCount: 6; ComponentLink1Description: LM3677 Datasheet; ComponentLink1URL: http://www.national.com/ds/LM/LM3677.pdf; ComponentLink2Description: LM3677 Web Page; ComponentLink2URL: http://www.national.com/pf/LM/LM3677.html; ComponentLink3Description: LEB06A Package Page; ComponentLink3URL: http://www.national.com/packaging/folders/leb06a.html
footprint LEB06A (SON, 6-Leads, Body 2x1.5mm, Pitch 0.5mm, NSC Recommended)
pins: 1 VIN (power), 2 SW (power), 3 EN (in), 4 FB (in), 5 SW (power), 6 GND (power)

## LM3677LEE-1.2/NOPB
designator U?
3MHz, 600mA Miniature Step-Down DC-DC Converter for Ultra Low Voltage Circuits, 6-pin LLP, Pb-Free; PartNumber: LM3677LEE-1.2/NOPB; Manufacturer: National Semiconductor; PackageTopMarking: XVK; PowerWise: N; CompType: MiscPower; Published: 1-Mar-2010; DatasheetVersion: Feb-2008; PackageVersion: revB, Apr-2008; PackageReference: LEB06A; Publisher: Altium Limited; PackageDescription: LLP, 2 x 1.5 x 0.6mm, 6 Lead, 0.5mm Pitch, No Pullback; Supplier 1: Digi-Key; Supplier Part Number 1: LM3677LEE-1.2TR-ND; Supplier 2: Digi-Key; Supplier Part Number 2: LM3677LEE-1.2CT-ND; Supplier 3: Digi-Key; Supplier Part Number 3: LM3677LEE-1.2DKR-ND; RoHS: Y; PinCount: 6; ComponentLink1Description: LM3677 Datasheet; ComponentLink1URL: http://www.national.com/ds/LM/LM3677.pdf; ComponentLink2Description: LM3677 Web Page; ComponentLink2URL: http://www.national.com/pf/LM/LM3677.html; ComponentLink3Description: LEB06A Package Page; ComponentLink3URL: http://www.national.com/packaging/folders/leb06a.html
footprint LEB06A (SON, 6-Leads, Body 2x1.5mm, Pitch 0.5mm, NSC Recommended)
pins: 1 VIN (power), 2 SW (power), 3 EN (in), 4 FB (in), 5 SW (power), 6 GND (power)

## LM3677LEE-1.5/NOPB
designator U?
3MHz, 600mA Miniature Step-Down DC-DC Converter for Ultra Low Voltage Circuits, 6-pin LLP, Pb-Free; PartNumber: LM3677LEE-1.5/NOPB; Manufacturer: National Semiconductor; PackageTopMarking: XVL; PowerWise: N; CompType: MiscPower; Published: 1-Mar-2010; DatasheetVersion: Feb-2008; PackageVersion: revB, Apr-2008; PackageReference: LEB06A; Publisher: Altium Limited; PackageDescription: LLP, 2 x 1.5 x 0.6mm, 6 Lead, 0.5mm Pitch, No Pullback; Supplier 1: Digi-Key; Supplier Part Number 1: LM3677LEE-1.5TR-ND; Supplier 2: Digi-Key; Supplier Part Number 2: LM3677LEE-1.5CT-ND; Supplier 3: Digi-Key; Supplier Part Number 3: LM3677LEE-1.5DKR-ND; RoHS: Y; PinCount: 6; ComponentLink1Description: LM3677 Datasheet; ComponentLink1URL: http://www.national.com/ds/LM/LM3677.pdf; ComponentLink2Description: LM3677 Web Page; ComponentLink2URL: http://www.national.com/pf/LM/LM3677.html; ComponentLink3Description: LEB06A Package Page; ComponentLink3URL: http://www.national.com/packaging/folders/leb06a.html
footprint LEB06A (SON, 6-Leads, Body 2x1.5mm, Pitch 0.5mm, NSC Recommended)
pins: 1 VIN (power), 2 SW (power), 3 EN (in), 4 FB (in), 5 SW (power), 6 GND (power)